# Altium footprint library S20K75.PcbLib: 1 footprints
Each footprint in its own frame and in the unit in brackets; x right, y up, seen from the top. Pads: shape width x height; smd on the part's side, far side on the other; paste and mask are expansions set on the pad; w line width, h text height; cw(c..) or ccw(c..) is an arc to the next point about the centre after c.
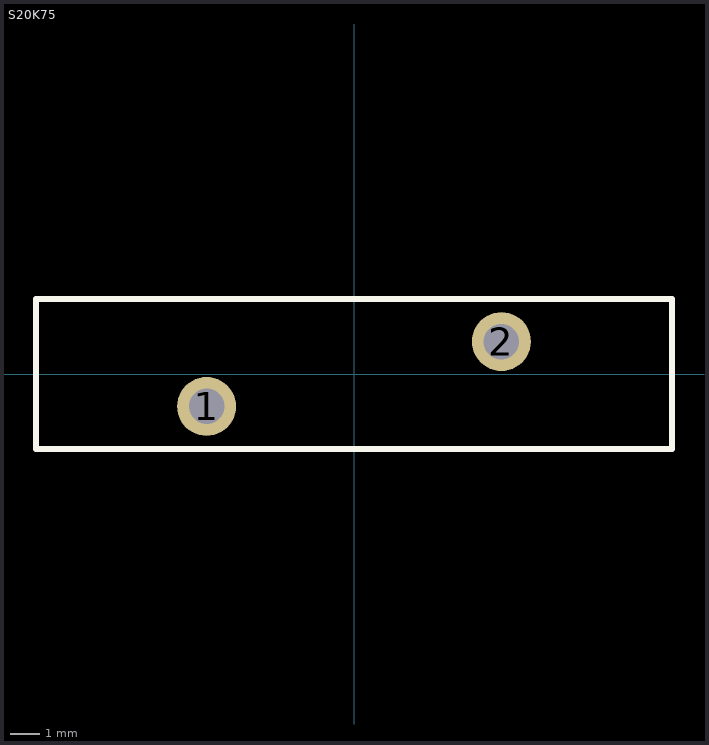
[diagram p0: the footprint, top view; thin cyan lines are the x and y axes]

## S20K75 [mm]
pads (2):
  round 2 hole 1.2: 1(-5,-1.1) 2(5,1.1)
Top Overlay:
  lines w0.2: -10.795,-2.54 -10.795,2.54 10.795,2.54 10.795,-2.54 -10.795,-2.54
Mechanical 13:
  lines w0.2: -10.795,-2.54 10.795,-2.54 10.795,2.54 -10.795,2.54 -10.795,-2.54
  text ".Designator" at -2.54,-0.254 h1.5
3D body: height 24.75, standoff -6.5, extent -10.75,-2.61 10.75,2.6